# Altium schematic symbol library BM10B-GHS-TBT_LF__SN__N_.SCHLIB: 1 symbol
Pins are listed as number, name and electrical type; pins without a type are passive.

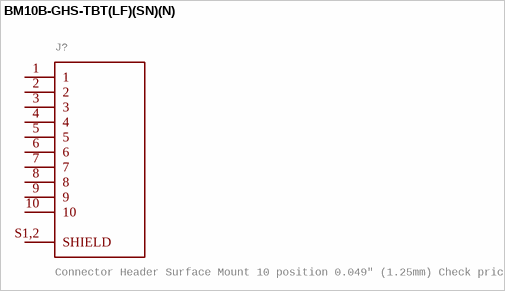
[diagram p0: symbol BM10B-GHS-TBT(LF)(SN)(N)]

## BM10B-GHS-TBT(LF)(SN)(N)
designator J?, comment Connector Header Surface Mount 10 position 0.049" (1.25mm) Check prices
GateName_1: G$1; SymbolName_1: BM10B-GHS-TBT(LF)(SN)(N); MF: JST Sales; Description: Connector Header Surface Mount 10 position 0.049 (1.25mm); LibraryName: BM10B-GHS-TBT_LF__SN__N_; DeviceSetName: BM10B-GHS-TBT(LF)(SN)(N); Package: JST_BM10B-GHS-TBT(LF)(SN)(N); Package: None; MP: BM10B-GHS-TBT(LF)(SN)(N); Availability: Not in stock; Price: None
footprint JST_BM10B-GHS-TBT(LF)(SN)(N)
pins: 1, 2, 3, 4, 5, 6, 7, 8, 9, 10, S1,2 SHIELD